# Altium footprint library PA2512FKE7T0U5E.PcbLib: 3 footprints
Each footprint in its own frame and in the unit in brackets; x right, y up, seen from the top. Pads: shape width x height; smd on the part's side, far side on the other; paste and mask are expansions set on the pad; w line width, h text height; cw(c..) or ccw(c..) is an arc to the next point about the centre after c.
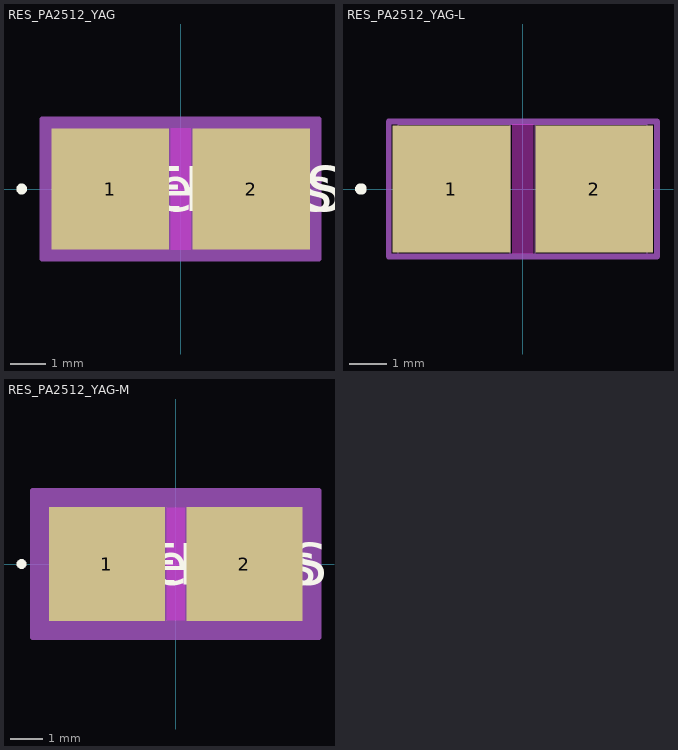
[diagram p0: the footprints below, top view; thin cyan lines are the x and y axes]

## RES_PA2512_YAG [mil]
pads (2):
  rect 131x135 smd paste+0 mask+0: 1(-78.5,0) 2(78.5,0)
Top Layer keep-out:
  region: -11,-65.5 -11,65.5 11,65.5 11,-65.5
Top Overlay:
  circle w6: c-177,0 r3
  text "REFDES" at -87.5,-25 h50
  text "RefDes" at -75,-25 h50
Keep-Out Layer:
  region: -11,-67.5 -11,67.5 11,67.5 11,-67.5
Mechanical 13:
  circle w0: c-73.5,0 r3
  lines w1: -130,-67.5 -130,67.5 ; -130,-67.5 130,-67.5 ; -130,-67.5 -13,-67.5 -13,67.5 -130,67.5 ; -130,-67.5 -130,67.5 ; -130,67.5 130,67.5 ; 130,-67.5 130,67.5 ; 130,-67.5 130,67.5 ; 130,-67.5 13,-67.5 13,67.5 130,67.5
  text "RefDes2" at -87.5,-25 h50
Mechanical 15:
  region: 154,-77.5 -154,-77.5 -154,77.5 154,77.5
  lines w6: -154,-77.5 154,-77.5 154,77.5 -154,77.5 -154,-77.5
3D body "RES_PA2512_YAG.step": height 35, standoff 0, extent -130,-67.48 130,67.48

## RES_PA2512_YAG-L [mil]
pads (2):
  rect 123x133 smd paste+0 mask+0: 1(-74.5,0) 2(74.5,0)
Top Overlay:
  circle w6: c-169,0 r3
Keep-Out Layer:
  region: -11,-67.5 -11,67.5 11,67.5 11,-67.5
Mechanical 13:
  circle w0: c-69.5,0 r3
  lines w1: -130,-67.5 -130,67.5 ; -130,-67.5 -13,-67.5 -13,67.5 -130,67.5 ; -130,-67.5 130,-67.5 ; -130,-67.5 -130,67.5 ; -130,67.5 130,67.5 ; 130,-67.5 13,-67.5 13,67.5 130,67.5 ; 130,-67.5 130,67.5 ; 130,-67.5 130,67.5
Mechanical 15:
  lines w6: -140,-70.5 -140,70.5 140,70.5 140,-70.5 -140,-70.5
3D body "RES_PA2512_YAG.step": height 35, standoff 0, extent -130,-67.48 130,67.48

## RES_PA2512_YAG-M [mil]
pads (2):
  rect 139x137 smd paste+0 mask+0: 1(-82.5,0) 2(82.5,0)
Top Layer keep-out:
  region: -11,-65.5 -11,65.5 11,65.5 11,-65.5
Top Overlay:
  circle w6: c-185,0 r3
  text "RefDes" at -75,-25 h50
  text "REFDES" at -87.5,-25 h50
Keep-Out Layer:
  region: -11,-67.5 -11,67.5 11,67.5 11,-67.5
Mechanical 13:
  circle w0: c-77.5,0 r3
  lines w1: -130,-67.5 -130,67.5 ; -130,-67.5 -13,-67.5 -13,67.5 -130,67.5 ; -130,-67.5 130,-67.5 ; -130,-67.5 -130,67.5 ; -130,67.5 130,67.5 ; 130,-67.5 13,-67.5 13,67.5 130,67.5 ; 130,-67.5 130,67.5 ; 130,-67.5 130,67.5
  text "RefDes2" at -87.5,-25 h50
Mechanical 15:
  region: 172,-88.5 -172,-88.5 -172,88.5 172,88.5
  lines w6: -172,-88.5 -172,88.5 172,88.5 172,-88.5 -172,-88.5
3D body "RES_PA2512_YAG.step": height 35, standoff 0, extent -130,-67.48 130,67.48